# EAGLE library part LM51551 (library SON45P300X300X80-13N)
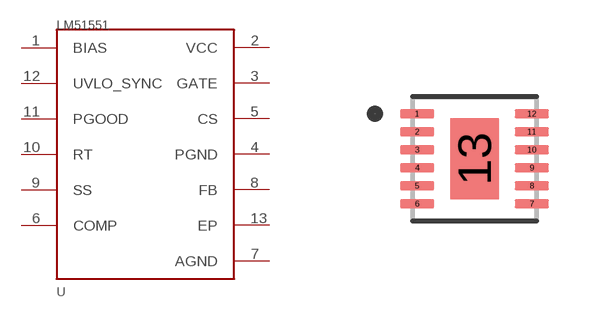
[diagram p0: symbol with the pads of SON45P300X300X80-13N; footprint SON45P300X300X80-13N]

Designator prefix -

## LM51551  [SON45P300X300X80-13N]
1  BIAS  pwr
2  VCC  pwr
3  GATE  out
4  PGND  pwr
5  CS  in
6  COMP  out
7  AGND  pwr
8  FB  in
9  SS  in
10  RT  in
11  PGOOD  out
12  UVLO_SYNC  in
13  EP  pas

## Footprint SON45P300X300X80-13N (pad centres in mm)
smd 0.86 x 0.22: 1 -1.435,1.125; 2 -1.435,0.675; 3 -1.435,0.225; 4 -1.435,-0.225; 5 -1.435,-0.675; 6 -1.435,-1.125; 7 1.435,-1.125; 8 1.435,-0.675; 9 1.435,-0.225; 10 1.435,0.225; 11 1.435,0.675; 12 1.435,1.125
smd 1.21 x 2.02: 13 0,0